# EAGLE library part SWITCH5 (library switch)
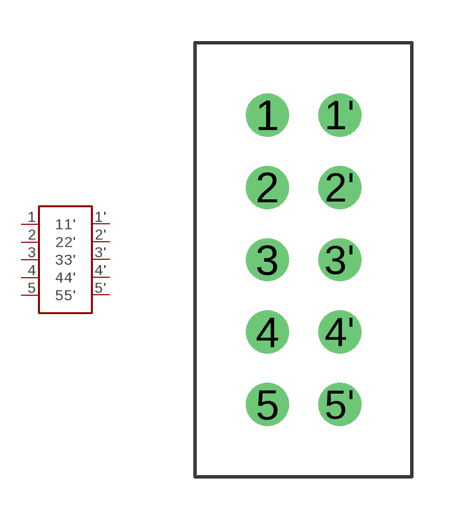
[diagram p1: symbol with the pads of SWITCH5; footprint SWITCH5]

Designator prefix -

## SWITCH5  [SWITCH5]
1  1
1'  1'
2  2
2'  2'
3  3
3'  3'
4  4
4'  4'
5  5
5'  5'

## Footprint SWITCH5 (pad centres in mm)
drill 1: 1 -20.32,5.08; 1' -17.78,5.08; 2 -20.32,2.54; 2' -17.78,2.54; 3 -20.32,0; 3' -17.78,0; 4 -20.32,-2.54; 4' -17.78,-2.54; 5 -20.32,-5.08; 5' -17.78,-5.08